# Altium footprint library 1984659.PcbLib: 1 footprints
Each footprint in its own frame and in the unit in brackets; x right, y up, seen from the top. Pads: shape width x height; smd on the part's side, far side on the other; paste and mask are expansions set on the pad; w line width, h text height; cw(c..) or ccw(c..) is an arc to the next point about the centre after c.
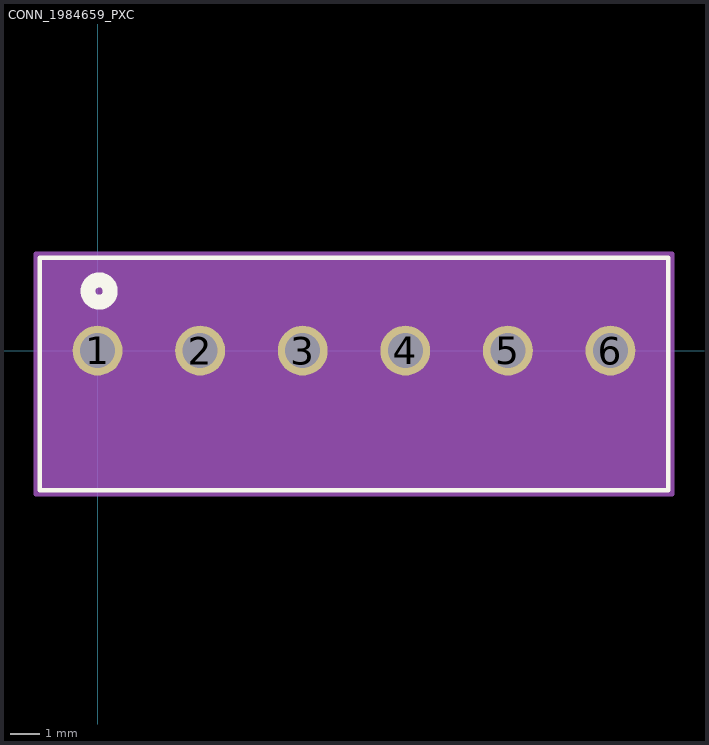
[diagram p0: the footprint, top view; thin cyan lines are the x and y axes]

## CONN_1984659_PXC [mil]
pads (6):
  round 67 / inner round 60 / far side round 67 hole 47 paste-99999 mask+0: 1(0,0) 2(137.8,0) 3(275.59,0) 4(413.39,0) 5(551.18,0) 6(688.98,0)
Top Overlay:
  circle w20: c1.99,80 r15
  lines w6: -78.01,-187.92 -78.01,125.08 766.99,125.08 766.99,-187.92 -78.01,-187.92
Bottom Overlay:
  circle w20: c1.99,80 r15
Mechanical 13:
  circle w20: c0,75 r15
  lines w1: -73.01,-182.92 -73.01,120.08 761.99,120.08 761.99,-182.92 -73.01,-182.92
Mechanical 15:
  region: 771.99,130.08 -83.01,130.08 -83.01,-192.92 771.99,-192.92
  lines w6: -83.01,-192.92 771.99,-192.92 771.99,130.08 -83.01,130.08 -83.01,-192.92
3D body "pxc_1984659_03_00_PT-1-5-6-3-5-H_3D.stp": height 360.24, standoff -177.17, extent -75.12,-176.65 779.21,120.59